# Altium schematic symbol library DCDC.SchLib: 4 symbols
Pins are listed as number, name and electrical type; pins without a type are passive.

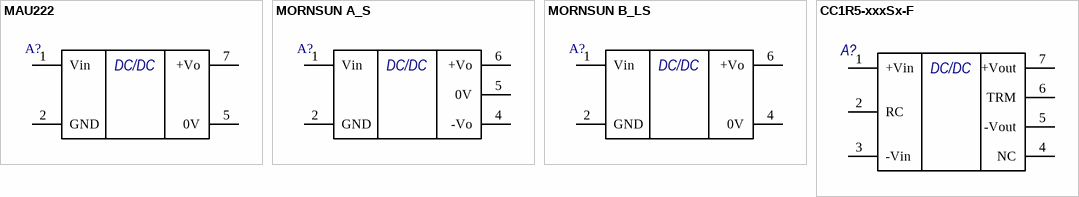
[diagram p0: symbols MAU222 to СС1R5-xxxSx-F]

## MAU222
designator A?  (value not drawn)
pins: 1 Vin, 2 GND, 5 0V, 7 +Vo
text: DC/DC

## MORNSUN A_S
designator A?  (value not drawn)
pins: 1 Vin, 2 GND, 4 -Vo, 5 0V, 6 +Vo
text: DC/DC

## MORNSUN B_LS
designator A?  (value not drawn)
pins: 1 Vin, 2 GND, 4 0V, 6 +Vo
text: DC/DC

## СС1R5-xxxSx-F
designator A?  (value not drawn)
pins: 1 +Vin, 2 RC, 3 -Vin, 4 NC, 5 -Vout, 6 TRM, 7 +Vout
text: DC/DC